# Altium schematic symbol library INA156EA_2K5.SchLib: 1 symbol
Pins are listed as number, name and electrical type; pins without a type are passive.

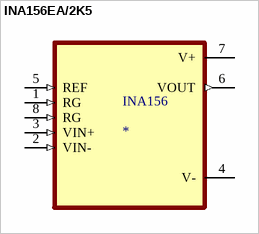
[diagram p0: symbol INA156EA/2K5]

## INA156EA/2K5
designator INA156
MP: INA156EA/2K5; Package: None; Price: None; Value: *; Availability: Unavailable
footprint SOP65P490X110-8N
pins: 1 RG (in), 2 VIN- (in), 3 VIN+ (in), 4 V- (power), 5 REF (in), 6 VOUT (out), 7 V+ (power), 8 RG (in)